# Altium integrated library WE-LQ_rev15a.intlib: 48 symbols
Pins are listed as number, name and electrical type; pins without a type are passive.

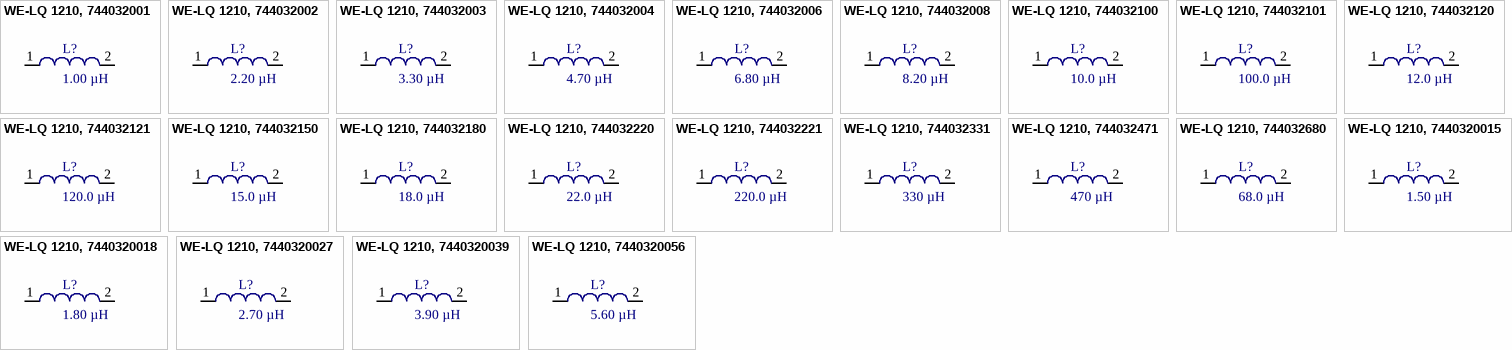
[diagram p0: symbols WE-LQ 1210, 744032001 to WE-LQ 1210, 7440320056]

## WE-LQ 1210, 744032001
designator L?, comment 1.00 µH
SMD-RF-Inductor WE-LQ, L=1.00 µH; partNo: 744032001; Manufacturer: Würth Elektronik eiSos GmbH; Inductance: 1.00 µH; ComponentLink1Description: Manufacturer; ComponentLink1URL: http://www.we-online.de; Created by: Christin Zierenner; Created Date: May 2009; ComponentLink2Description: Datasheet; ComponentLink2URL: http://www.we-online.de/katalog/media/pdf/744032001.pdf
footprint WE-LQ 1210 (Inductor, 2-Leads, Body 3,2x2,5mm)
pins: 1, 2

## WE-LQ 1210, 744032002
designator L?, comment 2.20 µH
SMD-RF-Inductor WE-LQ, L=2.20 µH; partNo: 744032002; Manufacturer: Würth Elektronik eiSos GmbH; Inductance: 2.20 µH; ComponentLink1Description: Manufacturer; ComponentLink1URL: http://www.we-online.de; Created by: Christin Zierenner; Created Date: May 2009; ComponentLink2Description: Datasheet; ComponentLink2URL: http://www.we-online.de/katalog/media/pdf/744032002.pdf
footprint WE-LQ 1210 (Inductor, 2-Leads, Body 3,2x2,5mm)
pins: 1, 2

## WE-LQ 1210, 744032003
designator L?, comment 3.30 µH
SMD-RF-Inductor WE-LQ, L=3.30 µH; partNo: 744032003; Manufacturer: Würth Elektronik eiSos GmbH; Inductance: 3.30 µH; ComponentLink1Description: Manufacturer; ComponentLink1URL: http://www.we-online.de; Created by: Christin Zierenner; Created Date: May 2009; ComponentLink2Description: Datasheet; ComponentLink2URL: http://www.we-online.de/katalog/media/pdf/744032003.pdf
footprint WE-LQ 1210 (Inductor, 2-Leads, Body 3,2x2,5mm)
pins: 1, 2

## WE-LQ 1210, 744032004
designator L?, comment 4.70 µH
SMD-RF-Inductor WE-LQ, L4.70 µH; partNo: 744032004; Manufacturer: Würth Elektronik eiSos GmbH; Inductance: 4.70 µH; ComponentLink1Description: Manufacturer; ComponentLink1URL: http://www.we-online.de; Created by: Christin Zierenner; Created Date: May 2009; ComponentLink2Description: Datasheet; ComponentLink2URL: http://www.we-online.de/katalog/media/pdf/744032004.pdf
footprint WE-LQ 1210 (Inductor, 2-Leads, Body 3,2x2,5mm)
pins: 1, 2

## WE-LQ 1210, 744032006
designator L?, comment 6.80 µH
SMD-RF-Inductor WE-LQ, L=6.80 µH; partNo: 744032006; Manufacturer: Würth Elektronik eiSos GmbH; Inductance: 6.80 µH; ComponentLink1Description: Manufacturer; ComponentLink1URL: http://www.we-online.de; Created by: Christin Zierenner; Created Date: May 2009; ComponentLink2Description: Datasheet; ComponentLink2URL: http://www.we-online.de/katalog/media/pdf/744032006.pdf
footprint WE-LQ 1210 (Inductor, 2-Leads, Body 3,2x2,5mm)
pins: 1, 2

## WE-LQ 1210, 744032008
designator L?, comment 8.20 µH
SMD-RF-Inductor WE-LQ, L=8.20 µH; partNo: 744032008; Manufacturer: Würth Elektronik eiSos GmbH; Inductance: 8.20 µH; ComponentLink1Description: Manufacturer; ComponentLink1URL: http://www.we-online.de; Created by: Christin Zierenner; Created Date: May 2009; ComponentLink2Description: Datasheet; ComponentLink2URL: http://www.we-online.de/katalog/media/pdf/744032008.pdf
footprint WE-LQ 1210 (Inductor, 2-Leads, Body 3,2x2,5mm)
pins: 1, 2

## WE-LQ 1210, 744032100
designator L?, comment 10.0 µH
SMD-RF-Inductor WE-LQ, L=10.0 µH; partNo: 744032100; Manufacturer: Würth Elektronik eiSos GmbH; Inductance: 10.0 µH; ComponentLink1Description: Manufacturer; ComponentLink1URL: http://www.we-online.de; Created by: Christin Zierenner; Created Date: May 2009; ComponentLink2Description: Datasheet; ComponentLink2URL: http://www.we-online.de/katalog/media/pdf/744032100.pdf
footprint WE-LQ 1210 (Inductor, 2-Leads, Body 3,2x2,5mm)
pins: 1, 2

## WE-LQ 1210, 744032101
designator L?, comment 100.0 µH
SMD-RF-Inductor WE-LQ, L=100.0 µH; partNo: 744032101; Manufacturer: Würth Elektronik eiSos GmbH; Inductance: 100.0 µH; ComponentLink1Description: Manufacturer; ComponentLink1URL: http://www.we-online.de; Created by: Christin Zierenner; Created Date: May 2009; ComponentLink2Description: Datasheet; ComponentLink2URL: http://www.we-online.de/katalog/media/pdf/744032101.pdf
footprint WE-LQ 1210 (Inductor, 2-Leads, Body 3,2x2,5mm)
pins: 1, 2

## WE-LQ 1210, 744032120
designator L?, comment 12.0 µH
SMD-RF-Inductor WE-LQ, L=12.0 µH; partNo: 744032120; Manufacturer: Würth Elektronik eiSos GmbH; Inductance: 12.0 µH; ComponentLink1Description: Manufacturer; ComponentLink1URL: http://www.we-online.de; Created by: Christin Zierenner; Created Date: May 2009; ComponentLink2Description: Datasheet; ComponentLink2URL: http://www.we-online.de/katalog/media/pdf/744032120.pdf
footprint WE-LQ 1210 (Inductor, 2-Leads, Body 3,2x2,5mm)
pins: 1, 2

## WE-LQ 1210, 744032121
designator L?, comment 120.0 µH
SMD-RF-Inductor WE-LQ, L=120.0 µH; partNo: 744032121; Manufacturer: Würth Elektronik eiSos GmbH; Inductance: 120.0 µH; ComponentLink1Description: Manufacturer; ComponentLink1URL: http://www.we-online.de; Created by: Christin Zierenner; Created Date: May 2009; ComponentLink2Description: Datasheet; ComponentLink2URL: http://www.we-online.de/katalog/media/pdf/744032121.pdf
footprint WE-LQ 1210 (Inductor, 2-Leads, Body 3,2x2,5mm)
pins: 1, 2

## WE-LQ 1210, 744032150
designator L?, comment 15.0 µH
SMD-RF-Inductor WE-LQ, L=15.0 µH; partNo: 744032150; Manufacturer: Würth Elektronik eiSos GmbH; Inductance: 15.0 µH; ComponentLink1Description: Manufacturer; ComponentLink1URL: http://www.we-online.de; Created by: Christin Zierenner; Created Date: May 2009; ComponentLink2Description: Datasheet; ComponentLink2URL: http://www.we-online.de/katalog/media/pdf/744032150.pdf
footprint WE-LQ 1210 (Inductor, 2-Leads, Body 3,2x2,5mm)
pins: 1, 2

## WE-LQ 1210, 744032180
designator L?, comment 18.0 µH
SMD-RF-Inductor WE-LQ, L=18.0 µH; partNo: 744032180; Manufacturer: Würth Elektronik eiSos GmbH; Inductance: 18.0 µH; ComponentLink1Description: Manufacturer; ComponentLink1URL: http://www.we-online.de; Created by: Christin Zierenner; Created Date: May 2009; ComponentLink2Description: Datasheet; ComponentLink2URL: http://www.we-online.de/katalog/media/pdf/744032180.pdf
footprint WE-LQ 1210 (Inductor, 2-Leads, Body 3,2x2,5mm)
pins: 1, 2

## WE-LQ 1210, 744032220
designator L?, comment 22.0 µH
SMD-RF-Inductor WE-LQ, L=22.0 µH; partNo: 744032220; Manufacturer: Würth Elektronik eiSos GmbH; Inductance: 22.0 µH; ComponentLink1Description: Manufacturer; ComponentLink1URL: http://www.we-online.de; Created by: Christin Zierenner; Created Date: May 2009; ComponentLink2Description: Datasheet; ComponentLink2URL: http://www.we-online.de/katalog/media/pdf/744032220.pdf
footprint WE-LQ 1210 (Inductor, 2-Leads, Body 3,2x2,5mm)
pins: 1, 2

## WE-LQ 1210, 744032221
designator L?, comment 220.0 µH
SMD-RF-Inductor WE-LQ, L=220.0 µH; partNo: 744032221; Manufacturer: Würth Elektronik eiSos GmbH; Inductance: 220.0 µH; ComponentLink1Description: Manufacturer; ComponentLink1URL: http://www.we-online.de; Created by: Christin Zierenner; Created Date: May 2009; ComponentLink2Description: Datasheet; ComponentLink2URL: http://www.we-online.de/katalog/media/pdf/744032221.pdf
footprint WE-LQ 1210 (Inductor, 2-Leads, Body 3,2x2,5mm)
pins: 1, 2

## WE-LQ 1210, 744032331
designator L?, comment 330 µH
SMD-RF-Inductor WE-LQ, L=330 µH; partNo: 744032331; Manufacturer: Würth Elektronik eiSos GmbH; Inductance: 330 µH; ComponentLink1Description: Manufacturer; ComponentLink1URL: http://www.we-online.de; Created by: Christin Zierenner; Created Date: June 2010; ComponentLink2Description: Datasheet; ComponentLink2URL: http://www.we-online.de/katalog/media/pdf/744032331.pdf
footprint WE-LQ 1210 (Inductor, 2-Leads, Body 3,2x2,5mm)
pins: 1, 2

## WE-LQ 1210, 744032471
designator L?, comment 470 µH
SMD-RF-Inductor WE-LQ, L=470 µH; partNo: 744032471; Manufacturer: Würth Elektronik eiSos GmbH; Inductance: 470 µH; ComponentLink1Description: Manufacturer; ComponentLink1URL: http://www.we-online.de; Created by: Christin Zierenner; Created Date: June 2010; ComponentLink2Description: Datasheet; ComponentLink2URL: http://www.we-online.de/katalog/media/pdf/744032471.pdf
footprint WE-LQ 1210 (Inductor, 2-Leads, Body 3,2x2,5mm)
pins: 1, 2

## WE-LQ 1210, 744032680
designator L?, comment 68.0 µH
SMD-RF-Inductor WE-LQ, L=68.0 µH; partNo: 744032680; Manufacturer: Würth Elektronik eiSos GmbH; Inductance: 68.0 µH; ComponentLink1Description: Manufacturer; ComponentLink1URL: http://www.we-online.de; Created by: Christin Zierenner; Created Date: May 2009; ComponentLink2Description: Datasheet; ComponentLink2URL: http://www.we-online.de/katalog/media/pdf/744032680.pdf
footprint WE-LQ 1210 (Inductor, 2-Leads, Body 3,2x2,5mm)
pins: 1, 2

## WE-LQ 1210, 7440320015
designator L?, comment 1.50 µH
SMD-RF-Inductor WE-LQ, L=1.50 µH; partNo: 7440320015; Manufacturer: Würth Elektronik eiSos GmbH; Inductance: 1.50 µH; ComponentLink1Description: Manufacturer; ComponentLink1URL: http://www.we-online.de; Created by: Christin Zierenner; Created Date: May 2009; ComponentLink2Description: Datasheet; ComponentLink2URL: http://www.we-online.de/katalog/media/pdf/7440320015.pdf
footprint WE-LQ 1210 (Inductor, 2-Leads, Body 3,2x2,5mm)
pins: 1, 2

## WE-LQ 1210, 7440320018
designator L?, comment 1.80 µH
SMD-RF-Inductor WE-LQ, L=1.80 µH; partNo: 7440320018; Manufacturer: Würth Elektronik eiSos GmbH; Inductance: 1.80 µH; ComponentLink1Description: Manufacturer; ComponentLink1URL: http://www.we-online.de; Created by: Christin Zierenner; Created Date: May 2009; ComponentLink2Description: Datasheet; ComponentLink2URL: http://www.we-online.de/katalog/media/pdf/7440320018.pdf
footprint WE-LQ 1210 (Inductor, 2-Leads, Body 3,2x2,5mm)
pins: 1, 2

## WE-LQ 1210, 7440320027
designator L?, comment 2.70 µH
SMD-RF-Inductor WE-LQ, L=2.70 µH; partNo: 7440320027; Manufacturer: Würth Elektronik eiSos GmbH; Inductance: 2.70 µH; ComponentLink1Description: Manufacturer; ComponentLink1URL: http://www.we-online.de; Created by: Christin Zierenner; Created Date: May 2009; ComponentLink2Description: Datasheet; ComponentLink2URL: http://www.we-online.de/katalog/media/pdf/7440320027.pdf
footprint WE-LQ 1210 (Inductor, 2-Leads, Body 3,2x2,5mm)
pins: 1, 2

## WE-LQ 1210, 7440320039
designator L?, comment 3.90 µH
SMD-RF-Inductor WE-LQ, L=3.90 µH; partNo: 7440320039; Manufacturer: Würth Elektronik eiSos GmbH; Inductance: 3.90 µH; ComponentLink1Description: Manufacturer; ComponentLink1URL: http://www.we-online.de; Created by: Christin Zierenner; Created Date: May 2009; ComponentLink2Description: Datasheet; ComponentLink2URL: http://www.we-online.de/katalog/media/pdf/7440320039.pdf
footprint WE-LQ 1210 (Inductor, 2-Leads, Body 3,2x2,5mm)
pins: 1, 2

## WE-LQ 1210, 7440320056
designator L?, comment 5.60 µH
SMD-RF-Inductor WE-LQ, L=5.60 µH; partNo: 7440320056; Manufacturer: Würth Elektronik eiSos GmbH; Inductance: 5.60 µH; ComponentLink1Description: Manufacturer; ComponentLink1URL: http://www.we-online.de; Created by: Christin Zierenner; Created Date: May 2009; ComponentLink2Description: Datasheet; ComponentLink2URL: http://www.we-online.de/katalog/media/pdf/7440320056.pdf
footprint WE-LQ 1210 (Inductor, 2-Leads, Body 3,2x2,5mm)
pins: 1, 2


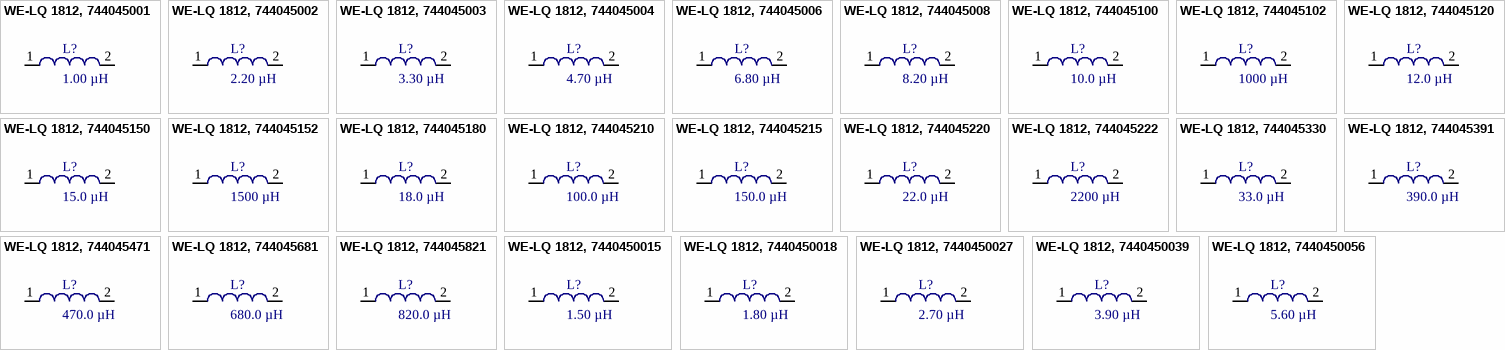
[diagram p1: symbols WE-LQ 1812, 744045001 to WE-LQ 1812, 7440450056]

## WE-LQ 1812, 744045001
designator L?, comment 1.00 µH
SMD-RF-Inductor WE-LQ, L=1.00 µH; partNo: 744045001; Manufacturer: Würth Elektronik eiSos GmbH; Inductance: 1.00 µH; ComponentLink1Description: Manufacturer; ComponentLink1URL: http://www.we-online.de; Created by: Christin Zierenner; Created Date: May 2009; ComponentLink2Description: Datasheet; ComponentLink2URL: http://www.we-online.de/katalog/media/pdf/744045001.pdf
footprint WE-LQ 1812 (Inductor, 2-Leads, Body 4,5x3,2mm)
pins: 1, 2

## WE-LQ 1812, 744045002
designator L?, comment 2.20 µH
SMD-RF-Inductor WE-LQ, L=2.20 µH; partNo: 744045002; Manufacturer: Würth Elektronik eiSos GmbH; Inductance: 2.20 µH; ComponentLink1Description: Manufacturer; ComponentLink1URL: http://www.we-online.de; Created by: Christin Zierenner; Created Date: May 2009; ComponentLink2Description: Datasheet; ComponentLink2URL: http://www.we-online.de/katalog/media/pdf/744045002.pdf
footprint WE-LQ 1812 (Inductor, 2-Leads, Body 4,5x3,2mm)
pins: 1, 2

## WE-LQ 1812, 744045003
designator L?, comment 3.30 µH
SMD-RF-Inductor WE-LQ, L=3.30 µH; partNo: 744045003; Manufacturer: Würth Elektronik eiSos GmbH; Inductance: 3.30 µH; ComponentLink1Description: Manufacturer; ComponentLink1URL: http://www.we-online.de; Created by: Christin Zierenner; Created Date: May 2009; ComponentLink2Description: Datasheet; ComponentLink2URL: http://www.we-online.de/katalog/media/pdf/744045003.pdf
footprint WE-LQ 1812 (Inductor, 2-Leads, Body 4,5x3,2mm)
pins: 1, 2

## WE-LQ 1812, 744045004
designator L?, comment 4.70 µH
SMD-RF-Inductor WE-LQ, L=4.70 µH; partNo: 744045004; Manufacturer: Würth Elektronik eiSos GmbH; Inductance: 4.70 µH; ComponentLink1Description: Manufacturer; ComponentLink1URL: http://www.we-online.de; Created by: Christin Zierenner; Created Date: May 2009; ComponentLink2Description: Datasheet; ComponentLink2URL: http://www.we-online.de/katalog/media/pdf/744045004.pdf
footprint WE-LQ 1812 (Inductor, 2-Leads, Body 4,5x3,2mm)
pins: 1, 2

## WE-LQ 1812, 744045006
designator L?, comment 6.80 µH
SMD-RF-Inductor WE-LQ, L=6.80 µH; partNo: 744045006; Manufacturer: Würth Elektronik eiSos GmbH; Inductance: 6.80 µH; ComponentLink1Description: Manufacturer; ComponentLink1URL: http://www.we-online.de; Created by: Christin Zierenner; Created Date: May 2009; ComponentLink2Description: Datasheet; ComponentLink2URL: http://www.we-online.de/katalog/media/pdf/744045006.pdf
footprint WE-LQ 1812 (Inductor, 2-Leads, Body 4,5x3,2mm)
pins: 1, 2

## WE-LQ 1812, 744045008
designator L?, comment 8.20 µH
SMD-RF-Inductor WE-LQ, L=8.20 µH; partNo: 744045008; Manufacturer: Würth Elektronik eiSos GmbH; Inductance: 8.20 µH; ComponentLink1Description: Manufacturer; ComponentLink1URL: http://www.we-online.de; Created by: Christin Zierenner; Created Date: May 2009; ComponentLink2Description: Datasheet; ComponentLink2URL: http://www.we-online.de/katalog/media/pdf/744045008.pdf
footprint WE-LQ 1812 (Inductor, 2-Leads, Body 4,5x3,2mm)
pins: 1, 2

## WE-LQ 1812, 744045100
designator L?, comment 10.0 µH
SMD-RF-Inductor WE-LQ, L=10.0 µH; partNo: 744045100; Manufacturer: Würth Elektronik eiSos GmbH; Inductance: 10.0 µH; ComponentLink1Description: Manufacturer; ComponentLink1URL: http://www.we-online.de; Created by: Christin Zierenner; Created Date: May 2009; ComponentLink2Description: Datasheet; ComponentLink2URL: http://www.we-online.de/katalog/media/pdf/744045100.pdf
footprint WE-LQ 1812 (Inductor, 2-Leads, Body 4,5x3,2mm)
pins: 1, 2

## WE-LQ 1812, 744045102
designator L?, comment 1000 µH
SMD-RF-Inductor WE-LQ, L=1000 µH; partNo: 744045102; Manufacturer: Würth Elektronik eiSos GmbH; Inductance: 1000 µH; ComponentLink1Description: Manufacturer; ComponentLink1URL: http://www.we-online.de; Created by: Christin Zierenner; Created Date: May 2009; ComponentLink2Description: Datasheet; ComponentLink2URL: http://www.we-online.de/katalog/media/pdf/744045102.pdf
footprint WE-LQ 1812 (Inductor, 2-Leads, Body 4,5x3,2mm)
pins: 1, 2

## WE-LQ 1812, 744045120
designator L?, comment 12.0 µH
SMD-RF-Inductor WE-LQ, L=12.0 µH; partNo: 744045120; Manufacturer: Würth Elektronik eiSos GmbH; Inductance: 12.0 µH; ComponentLink1Description: Manufacturer; ComponentLink1URL: http://www.we-online.de; Created by: Christin Zierenner; Created Date: May 2009; ComponentLink2Description: Datasheet; ComponentLink2URL: http://www.we-online.de/katalog/media/pdf/744045120.pdf
footprint WE-LQ 1812 (Inductor, 2-Leads, Body 4,5x3,2mm)
pins: 1, 2

## WE-LQ 1812, 744045150
designator L?, comment 15.0 µH
SMD-RF-Inductor WE-LQ, L=15.0 µH; partNo: 744045150; Manufacturer: Würth Elektronik eiSos GmbH; Inductance: 15.0 µH; ComponentLink1Description: Manufacturer; ComponentLink1URL: http://www.we-online.de; Created by: Christin Zierenner; Created Date: May 2009; ComponentLink2Description: Datasheet; ComponentLink2URL: http://www.we-online.de/katalog/media/pdf/744045150.pdf
footprint WE-LQ 1812 (Inductor, 2-Leads, Body 4,5x3,2mm)
pins: 1, 2

## WE-LQ 1812, 744045152
designator L?, comment 1500 µH
SMD-RF-Inductor WE-LQ, L=1500 µH; partNo: 744045152; Manufacturer: Würth Elektronik eiSos GmbH; Inductance: 1500 µH; ComponentLink1Description: Manufacturer; ComponentLink1URL: http://www.we-online.de; Created by: Christin Zierenner; Created Date: May 2009; ComponentLink2Description: Datasheet; ComponentLink2URL: http://www.we-online.de/katalog/media/pdf/744045152.pdf
footprint WE-LQ 1812 (Inductor, 2-Leads, Body 4,5x3,2mm)
pins: 1, 2

## WE-LQ 1812, 744045180
designator L?, comment 18.0 µH
SMD-RF-Inductor WE-LQ, L=18.0 µH; partNo: 744045180; Manufacturer: Würth Elektronik eiSos GmbH; Inductance: 18.0 µH; ComponentLink1Description: Manufacturer; ComponentLink1URL: http://www.we-online.de; Created by: Christin Zierenner; Created Date: May 2009; ComponentLink2Description: Datasheet; ComponentLink2URL: http://www.we-online.de/katalog/media/pdf/744045180.pdf
footprint WE-LQ 1812 (Inductor, 2-Leads, Body 4,5x3,2mm)
pins: 1, 2

## WE-LQ 1812, 744045210
designator L?, comment 100.0 µH
SMD-RF-Inductor WE-LQ, L=100.0 µH; partNo: 744045210; Manufacturer: Würth Elektronik eiSos GmbH; Inductance: 100.0 µH; ComponentLink1Description: Manufacturer; ComponentLink1URL: http://www.we-online.de; Created by: Christin Zierenner; Created Date: May 2009; ComponentLink2Description: Datasheet; ComponentLink2URL: http://www.we-online.de/katalog/media/pdf/744045210.pdf
footprint WE-LQ 1812 (Inductor, 2-Leads, Body 4,5x3,2mm)
pins: 1, 2

## WE-LQ 1812, 744045215
designator L?, comment 150.0 µH
SMD-RF-Inductor WE-LQ, L=150.0 µH; partNo: 744045215; Manufacturer: Würth Elektronik eiSos GmbH; Inductance: 150.0 µH; ComponentLink1Description: Manufacturer; ComponentLink1URL: http://www.we-online.de; Created by: Christin Zierenner; Created Date: May 2009; ComponentLink2Description: Datasheet; ComponentLink2URL: http://www.we-online.de/katalog/media/pdf/744045215.pdf
footprint WE-LQ 1812 (Inductor, 2-Leads, Body 4,5x3,2mm)
pins: 1, 2

## WE-LQ 1812, 744045220
designator L?, comment 22.0 µH
SMD-RF-Inductor WE-LQ, L=22.0 µH; partNo: 744045220; Manufacturer: Würth Elektronik eiSos GmbH; Inductance: 22.0 µH; ComponentLink1Description: Manufacturer; ComponentLink1URL: http://www.we-online.de; Created by: Christin Zierenner; Created Date: May 2009; ComponentLink2Description: Datasheet; ComponentLink2URL: http://www.we-online.de/katalog/media/pdf/744045220.pdf
footprint WE-LQ 1812 (Inductor, 2-Leads, Body 4,5x3,2mm)
pins: 1, 2

## WE-LQ 1812, 744045222
designator L?, comment 2200 µH
SMD-RF-Inductor WE-LQ, L=2200 µH; partNo: 744045222; Manufacturer: Würth Elektronik eiSos GmbH; Inductance: 2200 µH; ComponentLink1Description: Manufacturer; ComponentLink1URL: http://www.we-online.de; Created by: Christin Zierenner; Created Date: June 2010; ComponentLink2Description: Datasheet; ComponentLink2URL: http://www.we-online.de/katalog/media/pdf/744045222.pdf
footprint WE-LQ 1812 (Inductor, 2-Leads, Body 4,5x3,2mm)
pins: 1, 2

## WE-LQ 1812, 744045330
designator L?, comment 33.0 µH
SMD-RF-Inductor WE-LQ, L=33.0 µH; partNo: 744045330; Manufacturer: Würth Elektronik eiSos GmbH; Inductance: 33.0 µH; ComponentLink1Description: Manufacturer; ComponentLink1URL: http://www.we-online.de; Created by: Christin Zierenner; Created Date: May 2009; ComponentLink2Description: Datasheet; ComponentLink2URL: http://www.we-online.de/katalog/media/pdf/744045330.pdf
footprint WE-LQ 1812 (Inductor, 2-Leads, Body 4,5x3,2mm)
pins: 1, 2

## WE-LQ 1812, 744045391
designator L?, comment 390.0 µH
SMD-RF-Inductor WE-LQ, L=390.0 µH; partNo: 744045391; Manufacturer: Würth Elektronik eiSos GmbH; Inductance: 390.0 µH; ComponentLink1Description: Manufacturer; ComponentLink1URL: http://www.we-online.de; Created by: Christin Zierenner; Created Date: May 2009; ComponentLink2Description: Datasheet; ComponentLink2URL: http://www.we-online.de/katalog/media/pdf/744045391.pdf
footprint WE-LQ 1812 (Inductor, 2-Leads, Body 4,5x3,2mm)
pins: 1, 2

## WE-LQ 1812, 744045471
designator L?, comment 470.0 µH
SMD-RF-Inductor WE-LQ, L=470.0 µH; partNo: 744045471; Manufacturer: Würth Elektronik eiSos GmbH; Inductance: 470.0 µH; ComponentLink1Description: Manufacturer; ComponentLink1URL: http://www.we-online.de; Created by: Christin Zierenner; Created Date: May 2009; ComponentLink2Description: Datasheet; ComponentLink2URL: http://www.we-online.de/katalog/media/pdf/744045471.pdf
footprint WE-LQ 1812 (Inductor, 2-Leads, Body 4,5x3,2mm)
pins: 1, 2

## WE-LQ 1812, 744045681
designator L?, comment 680.0 µH
SMD-RF-Inductor WE-LQ, L=680.0 µH; partNo: 744045681; Manufacturer: Würth Elektronik eiSos GmbH; Inductance: 680.0 µH; ComponentLink1Description: Manufacturer; ComponentLink1URL: http://www.we-online.de; Created by: Christin Zierenner; Created Date: May 2009; ComponentLink2Description: Datasheet; ComponentLink2URL: http://www.we-online.de/katalog/media/pdf/744045681.pdf
footprint WE-LQ 1812 (Inductor, 2-Leads, Body 4,5x3,2mm)
pins: 1, 2

## WE-LQ 1812, 744045821
designator L?, comment 820.0 µH
SMD-RF-Inductor WE-LQ, L=820.0 µH; partNo: 744045821; Manufacturer: Würth Elektronik eiSos GmbH; Inductance: 820.0 µH; ComponentLink1Description: Manufacturer; ComponentLink1URL: http://www.we-online.de; Created by: Christin Zierenner; Created Date: May 2009; ComponentLink2Description: Datasheet; ComponentLink2URL: http://www.we-online.de/katalog/media/pdf/744045821.pdf
footprint WE-LQ 1812 (Inductor, 2-Leads, Body 4,5x3,2mm)
pins: 1, 2

## WE-LQ 1812, 7440450015
designator L?, comment 1.50 µH
SMD-RF-Inductor WE-LQ, L=1.50 µH; partNo: 7440450015; Manufacturer: Würth Elektronik eiSos GmbH; Inductance: 1.50 µH; ComponentLink1Description: Manufacturer; ComponentLink1URL: http://www.we-online.de; Created by: Christin Zierenner; Created Date: May 2009; ComponentLink2Description: Datasheet; ComponentLink2URL: http://www.we-online.de/katalog/media/pdf/7440450015.pdf
footprint WE-LQ 1812 (Inductor, 2-Leads, Body 4,5x3,2mm)
pins: 1, 2

## WE-LQ 1812, 7440450018
designator L?, comment 1.80 µH
SMD-RF-Inductor WE-LQ, L=1.80 µH; partNo: 7440450018; Manufacturer: Würth Elektronik eiSos GmbH; Inductance: 1.80 µH; ComponentLink1Description: Manufacturer; ComponentLink1URL: http://www.we-online.de; Created by: Christin Zierenner; Created Date: May 2009; ComponentLink2Description: Datasheet; ComponentLink2URL: http://www.we-online.de/katalog/media/pdf/7440450018.pdf
footprint WE-LQ 1812 (Inductor, 2-Leads, Body 4,5x3,2mm)
pins: 1, 2

## WE-LQ 1812, 7440450027
designator L?, comment 2.70 µH
SMD-RF-Inductor WE-LQ, L=2.70 µH; partNo: 7440450027; Manufacturer: Würth Elektronik eiSos GmbH; Inductance: 2.70 µH; ComponentLink1Description: Manufacturer; ComponentLink1URL: http://www.we-online.de; Created by: Christin Zierenner; Created Date: May 2009; ComponentLink2Description: Datasheet; ComponentLink2URL: http://www.we-online.de/katalog/media/pdf/7440450027.pdf
footprint WE-LQ 1812 (Inductor, 2-Leads, Body 4,5x3,2mm)
pins: 1, 2

## WE-LQ 1812, 7440450039
designator L?, comment 3.90 µH
SMD-RF-Inductor WE-LQ, L=3.90 µH; partNo: 7440450039; Manufacturer: Würth Elektronik eiSos GmbH; Inductance: 3.90 µH; ComponentLink1Description: Manufacturer; ComponentLink1URL: http://www.we-online.de; Created by: Christin Zierenner; Created Date: May 2009; ComponentLink2Description: Datasheet; ComponentLink2URL: http://www.we-online.de/katalog/media/pdf/7440450039.pdf
footprint WE-LQ 1812 (Inductor, 2-Leads, Body 4,5x3,2mm)
pins: 1, 2

## WE-LQ 1812, 7440450056
designator L?, comment 5.60 µH
SMD-RF-Inductor WE-LQ, L=5.60 µH; partNo: 7440450056; Manufacturer: Würth Elektronik eiSos GmbH; Inductance: 5.60 µH; ComponentLink1Description: Manufacturer; ComponentLink1URL: http://www.we-online.de; Created by: Christin Zierenner; Created Date: May 2009; ComponentLink2Description: Datasheet; ComponentLink2URL: http://www.we-online.de/katalog/media/pdf/744045001.pdf
footprint WE-LQ 1812 (Inductor, 2-Leads, Body 4,5x3,2mm)
pins: 1, 2